# Altium footprint library SM_CON5x2_2.54_FEM_KEY-Sullins.PcbLib: 1 footprints
Each footprint in its own frame and in the unit in brackets; x right, y up, seen from the top. Pads: shape width x height; smd on the part's side, far side on the other; paste and mask are expansions set on the pad; w line width, h text height; cw(c..) or ccw(c..) is an arc to the next point about the centre after c.
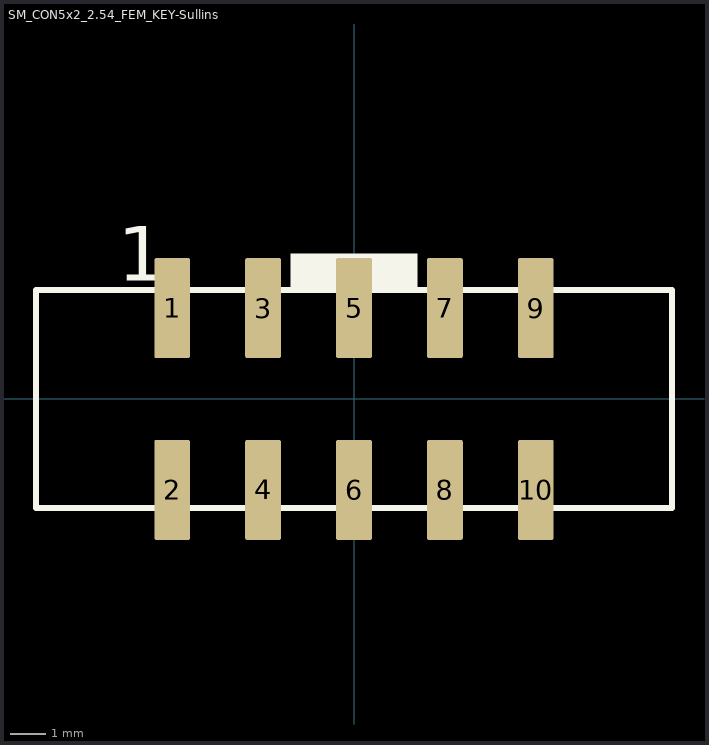
[diagram p0: the footprint, top view; thin cyan lines are the x and y axes]

## SM_CON5x2_2.54_FEM_KEY-Sullins [mil] "Sullins SFH11-GPPC-D05-SM-BK"
pads (10):
  rrect10% 39.37x110 smd: 1(-200,100) 2(-200,-100) 3(-100,100) 4(-100,-100) 5(0,100) 6(0,-100) 7(100,100) 8(100,-100) 9(200,100) 10(200,-100)
Top Overlay:
  region: 70,120 70,160 -70,160 -70,120
  lines w6.69: -350,-120 -350,120 350,120 350,-120 -350,-120
  text "1" at -260,130 h60
3D body "SFH11-GPPC-D05-SM-BK.STEP": height 368.11, standoff 0, extent -350,-148 350,153.18